# Altium footprint library МДМ-ФvsSTF28.PcbLib: 1 footprints
Each footprint in its own frame and in the unit in brackets; x right, y up, seen from the top. Pads: shape width x height; smd on the part's side, far side on the other; paste and mask are expansions set on the pad; w line width, h text height; cw(c..) or ccw(c..) is an arc to the next point about the centre after c.
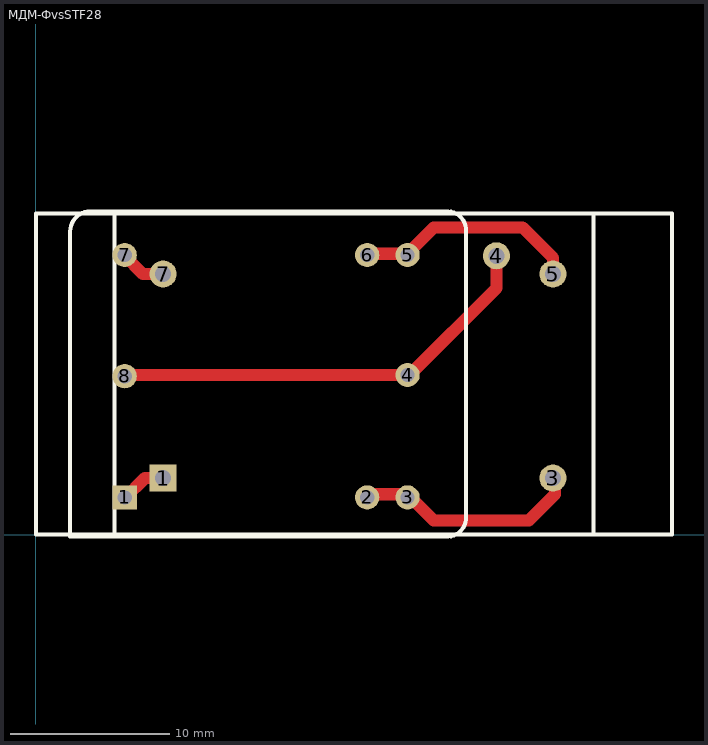
[diagram p0: the footprint, top view; thin cyan lines are the x and y axes]

## МДМ-ФvsSTF28 [mil]
pads (13):
  rect 60x60 hole 35.43: 1(220,92)
  rect 66.93x66.93 hole 39.37: 1(315,140)
  round 60 hole 35.43: 2(820,92) 3(920,92) 4(920,395) 5(920,692) 6(820,692) 7(220,692) 8(220,392)
  round 66.93 hole 39.37: 3(1280,140) 4(1140,690) 5(1280,645) 7(315,645)
Top Layer:
  lines w30: 220,90 270,140 315,140 ; 220,395 925,395 1140,610 1140,690 ; 220,690 265,645 310,645 ; 815,100 920,100 985,35 1220,35 1285,100 1285,135 ; 815,685 825,695 920,695 985,760 1205,760 1280,685 1280,650
Top Overlay:
  lines w10: 195,0 195,795 ; 1380,0 1380,795 ; 0,0 1575,0 1575,795 0,795 0,0 ; 85,-5 85,750 cw(c135,750) 135,800 1020,800 cw(c1017.5,752.5) 1065,750 1065,45 cw(c1017.5,42.5) 1020,-5 85,-5
3D body: height 270, standoff 0, extent 85,-5 1065,800